# Altium footprint library RPC2512.PcbLib: 1 footprints
Each footprint in its own frame and in the unit in brackets; x right, y up, seen from the top. Pads: shape width x height; smd on the part's side, far side on the other; paste and mask are expansions set on the pad; w line width, h text height; cw(c..) or ccw(c..) is an arc to the next point about the centre after c.
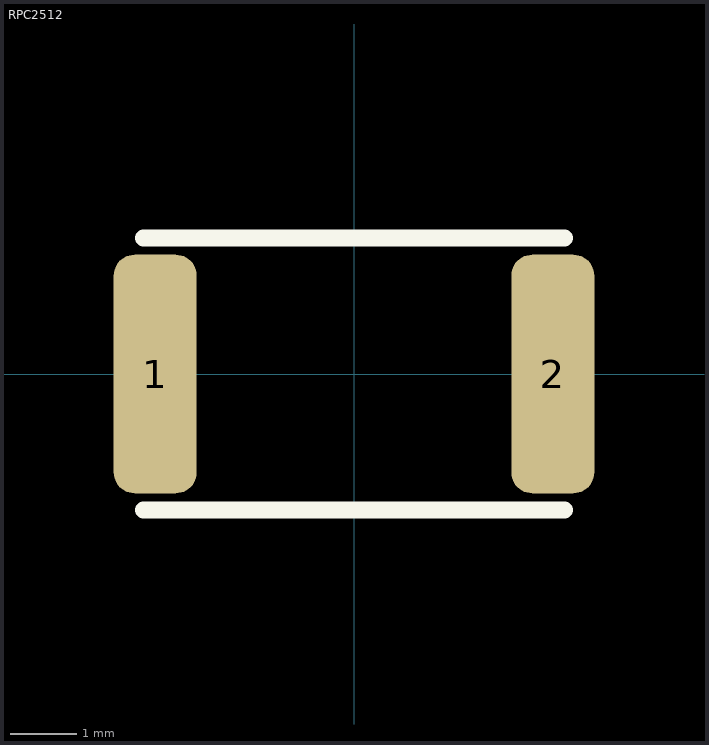
[diagram p0: the footprint, top view; thin cyan lines are the x and y axes]

## RPC2512 [mm]
pads (2):
  rrect50% 1.25x3.6 smd: 1(-3,0) 2(3,0)
Top Overlay:
  lines w0.254: -3.175,-2.05 3.175,-2.05 ; -3.175,2.05 3.175,2.05
3D body "resistor 2512.step": height 1.6, standoff 0, extent -3.175,-1.5 3.175,1.5